# EAGLE library part ADG711BRUZ (library ADG711BRUZ)
ADG711BRUZ, Analogue SPST Switch Quad SPST, 3 V, 5 V, 16-Pin, TSSOP, 4 Source: Datasheet <http://www.analog.com/media/en/technical-documentation/data-sheets/ADG711_712_713.pdf>
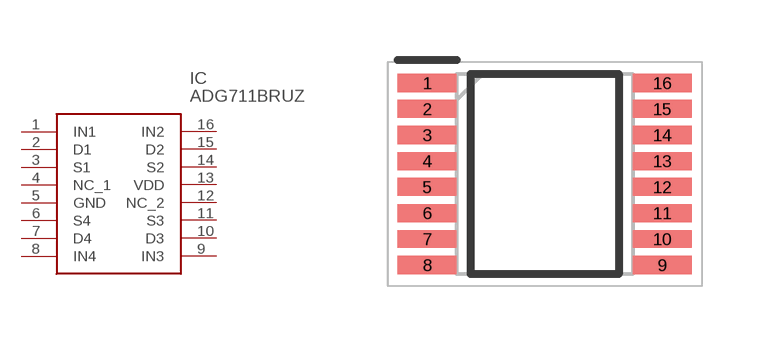
[diagram p0: symbol with the pads of SOP65P640X120-16N; footprint SOP65P640X120-16N]

Designator prefix IC

## ADG711BRUZ (Description: ADG711BRUZ, Analogue SPST Switch Quad SPST, 3 V, 5 V, 16-Pin, TSSOP, 4; Height: 1.2mm; Manufacturer_Name: Analog Devices; Manufacturer_Part_Number: ADG711BRUZ)  [SOP65P640X120-16N]
1  IN1
2  D1
3  S1
4  NC_1
5  GND
6  S4
7  D4
8  IN4
9  IN3
10  D3
11  S3
12  NC_2
13  VDD
14  S2
15  D2
16  IN2

## Footprint SOP65P640X120-16N (pad centres in mm)
RU-16 (TSSOP)
smd 1.475 x 0.45: 1 -2.938,2.275; 2 -2.938,1.625; 3 -2.938,0.975; 4 -2.938,0.325; 5 -2.938,-0.325; 6 -2.938,-0.975; 7 -2.938,-1.625; 8 -2.938,-2.275; 9 2.938,-2.275; 10 2.938,-1.625; 11 2.938,-0.975; 12 2.938,-0.325; 13 2.938,0.325; 14 2.938,0.975; 15 2.938,1.625; 16 2.938,2.275